# EAGLE library part ATXMEGA64D4 (library robotter_ic)
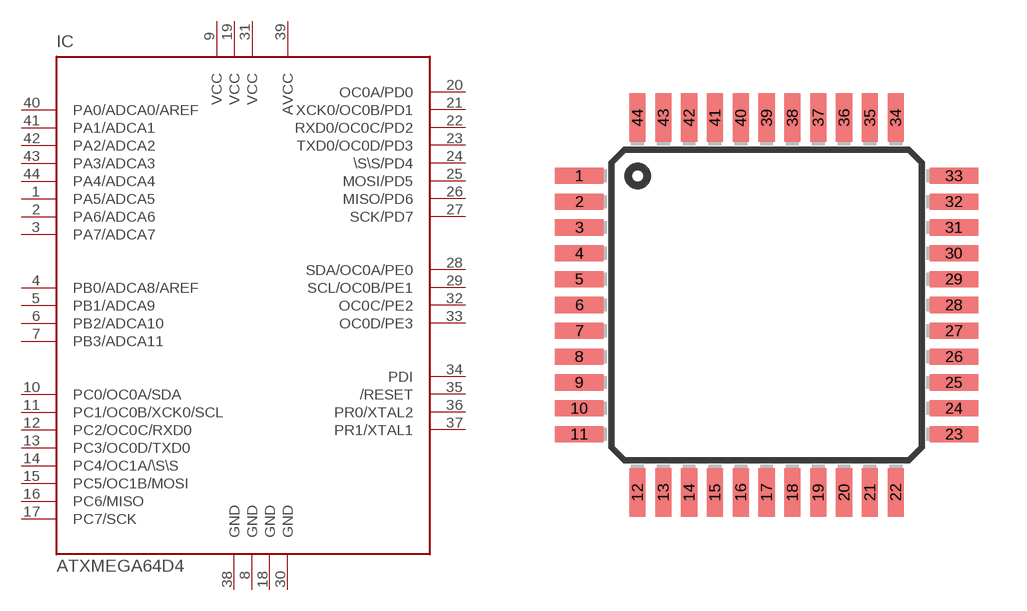
[diagram p20: symbol with the pads of TQFP44; footprint TQFP44]

Designator prefix IC

## ATXMEGA64D4-AU (MOUSER: 556-ATXMEGA64D4-AU; VALUE: ATXMEGA64D4-AU)  [TQFP44]
1  PA5/ADCA5
2  PA6/ADCA6
3  PA7/ADCA7
4  PB0/ADCA8/AREF
5  PB1/ADCA9
6  PB2/ADCA10
7  PB3/ADCA11
8  GND
9  VCC
10  PC0/OC0A/SDA
11  PC1/OC0B/XCK0/SCL
12  PC2/OC0C/RXD0
13  PC3/OC0D/TXD0
14  PC4/OC1A/\S\S
15  PC5/OC1B/MOSI
16  PC6/MISO
17  PC7/SCK
18  GND
19  VCC
20  OC0A/PD0
21  XCK0/OC0B/PD1
22  RXD0/OC0C/PD2
23  TXD0/OC0D/PD3
24  \S\S/PD4
25  MOSI/PD5
26  MISO/PD6
27  SCK/PD7
28  SDA/OC0A/PE0
29  SCL/OC0B/PE1
30  GND
31  VCC
32  OC0C/PE2
33  OC0D/PE3
34  PDI
35  /RESET
36  PR0/XTAL2
37  PR1/XTAL1
38  GND
39  AVCC
40  PA0/ADCA0/AREF
41  PA1/ADCA1
42  PA2/ADCA2
43  PA3/ADCA3
44  PA4/ADCA4

## Footprint TQFP44 (pad centres in mm)
44-lead Thin Quad Flat Package
smd 1.5 x 0.5: 1 -5.8,4; 2 -5.8,3.2; 3 -5.8,2.4; 4 -5.8,1.6; 5 -5.8,0.8; 6 -5.8,0; 7 -5.8,-0.8; 8 -5.8,-1.6; 9 -5.8,-2.4; 10 -5.8,-3.2; 11 -5.8,-4; 23 5.8,-4; 24 5.8,-3.2; 25 5.8,-2.4; 26 5.8,-1.6; 27 5.8,-0.8; 28 5.8,0; 29 5.8,0.8; 30 5.8,1.6; 31 5.8,2.4; 32 5.8,3.2; 33 5.8,4
smd 0.5 x 1.5: 12 -4,-5.8; 13 -3.2,-5.8; 14 -2.4,-5.8; 15 -1.6,-5.8; 16 -0.8,-5.8; 17 0,-5.8; 18 0.8,-5.8; 19 1.6,-5.8; 20 2.4,-5.8; 21 3.2,-5.8; 22 4,-5.8; 34 4,5.8; 35 3.2,5.8; 36 2.4,5.8; 37 1.6,5.8; 38 0.8,5.8; 39 0,5.8; 40 -0.8,5.8; 41 -1.6,5.8; 42 -2.4,5.8; 43 -3.2,5.8; 44 -4,5.8